# EAGLE library part VBT1-S5-S5-SMT (library systas0)
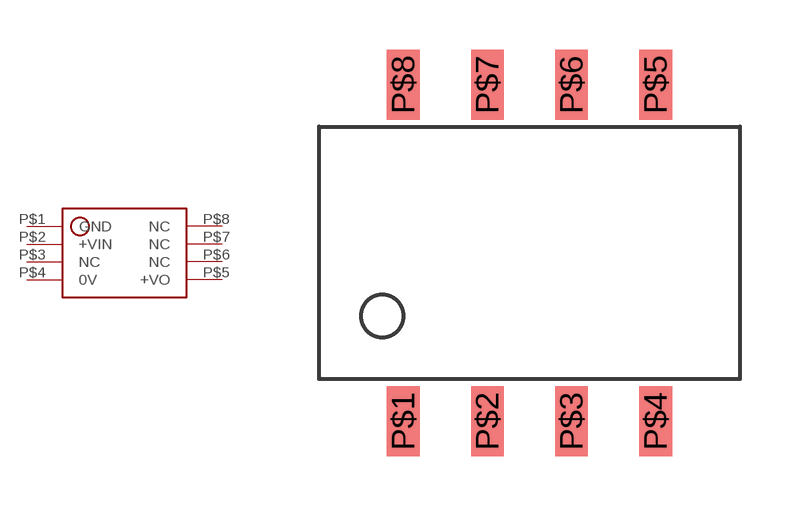
[diagram p8: symbol with the pads of VBT1-S5-S5-SMT; footprint VBT1-S5-S5-SMT]

Designator prefix -

## VBT1-S5-S5-SMT  [VBT1-S5-S5-SMT]
P$1  GND
P$2  +VIN
P$3  NC
P$4  0V
P$5  +VO
P$6  NC
P$7  NC
P$8  NC

## Footprint VBT1-S5-S5-SMT (pad centres in mm)
smd 0.991 x 2.108: P$1 0,-3.81; P$2 2.54,-3.81; P$3 5.08,-3.81; P$4 7.62,-3.81; P$5 7.62,6.35; P$6 5.08,6.35; P$7 2.54,6.35; P$8 0,6.35